# EAGLE library part SVF-CV-V1.0 (library XM8)
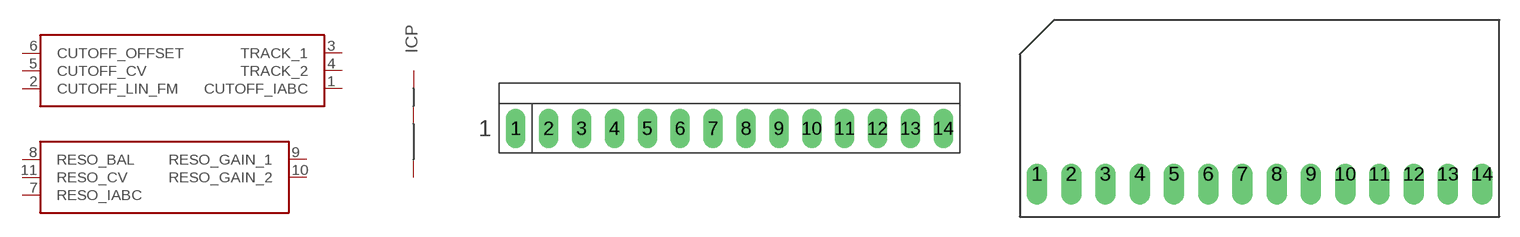
[diagram p13: symbol with the pads of XM8-SVF-CV-V1.0V; footprints XM8-SVF-CV-V1.0V, XM8-SVF-CV-V1.0H]

Designator prefix IC; gates G$1=XM8-SVF-CUTOFF-CV-V1.0 G$2=XM8-SVF-RESO-CV-V1.0 P=XM8-PWR

## SVF-CV-V1.0V  [XM8-SVF-CV-V1.0V]
1  G$1:CUTOFF_IABC
2  G$1:CUTOFF_LIN_FM
3  G$1:TRACK_1
4  G$1:TRACK_2
5  G$1:CUTOFF_CV
6  G$1:CUTOFF_OFFSET
7  G$2:RESO_IABC
8  G$2:RESO_BAL
9  G$2:RESO_GAIN_1
10  G$2:RESO_GAIN_2
11  G$2:RESO_CV
12  P:+V  pwr
13  P:AGND  pwr
14  P:-V  pwr

## SVF-CV-V1.0H  [XM8-SVF-CV-V1.0H]
Pads as for XM8-SVF-CV-V1.0V

## Footprint XM8-SVF-CV-V1.0V (pad centres in mm)
Xonik SVF Cutoff and Resonance CV board v1.0, vertical mount
drill 1.016 long: 1 -16.51,0; 2 -13.97,0; 3 -11.43,0; 4 -8.89,0; 5 -6.35,0; 6 -3.81,0; 7 -1.27,0; 8 1.27,0; 9 3.81,0; 10 6.35,0; 11 8.89,0; 12 11.43,0; 13 13.97,0; 14 16.51,0

## Footprint XM8-SVF-CV-V1.0H (pad centres in mm)
Xonik SVF Cutoff and Resonance CV board v1.0, horizontal mount
drill 1.016 offset: 1 -16.51,0; 2 -13.97,0; 3 -11.43,0; 4 -8.89,0; 5 -6.35,0; 6 -3.81,0; 7 -1.27,0; 8 1.27,0; 9 3.81,0; 10 6.35,0; 11 8.89,0; 12 11.43,0; 13 13.97,0; 14 16.51,0